# EAGLE library part S9V11F5S6CMA (library nathans-custom-parts)
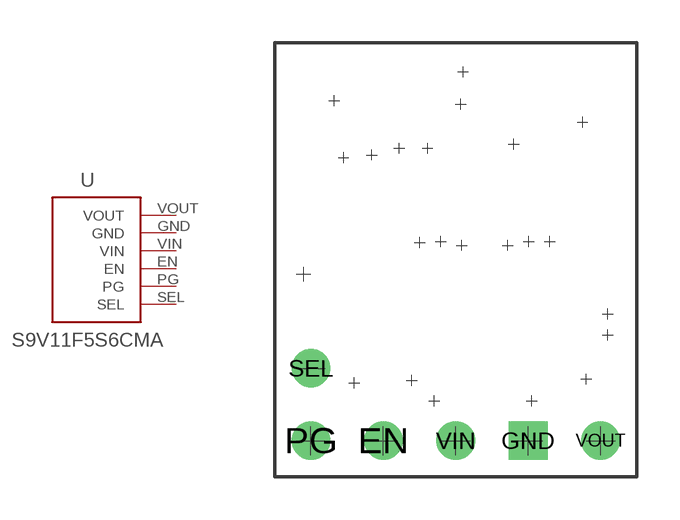
[diagram p4: symbol with the pads of S9V11F3S5CMA; footprint S9V11F3S5CMA]

Designator prefix -

## S9V11F5S6CMA  [S9V11F3S5CMA]
EN  EN
GND  GND
PG  PG
SEL  SEL
VIN  VIN
VOUT  VOUT

## Footprint S9V11F3S5CMA (pad centres in mm)
drill 0.85: EN 3.81,1.27; PG 1.27,1.27; SEL 1.27,3.81; VIN 6.35,1.27; VOUT 11.43,1.27
drill 0.85 square: GND 8.89,1.27